# Altium integrated library Linear Technology Power Management PMIC Multifunction.IntLib: 360 symbols (part 21 of 42)
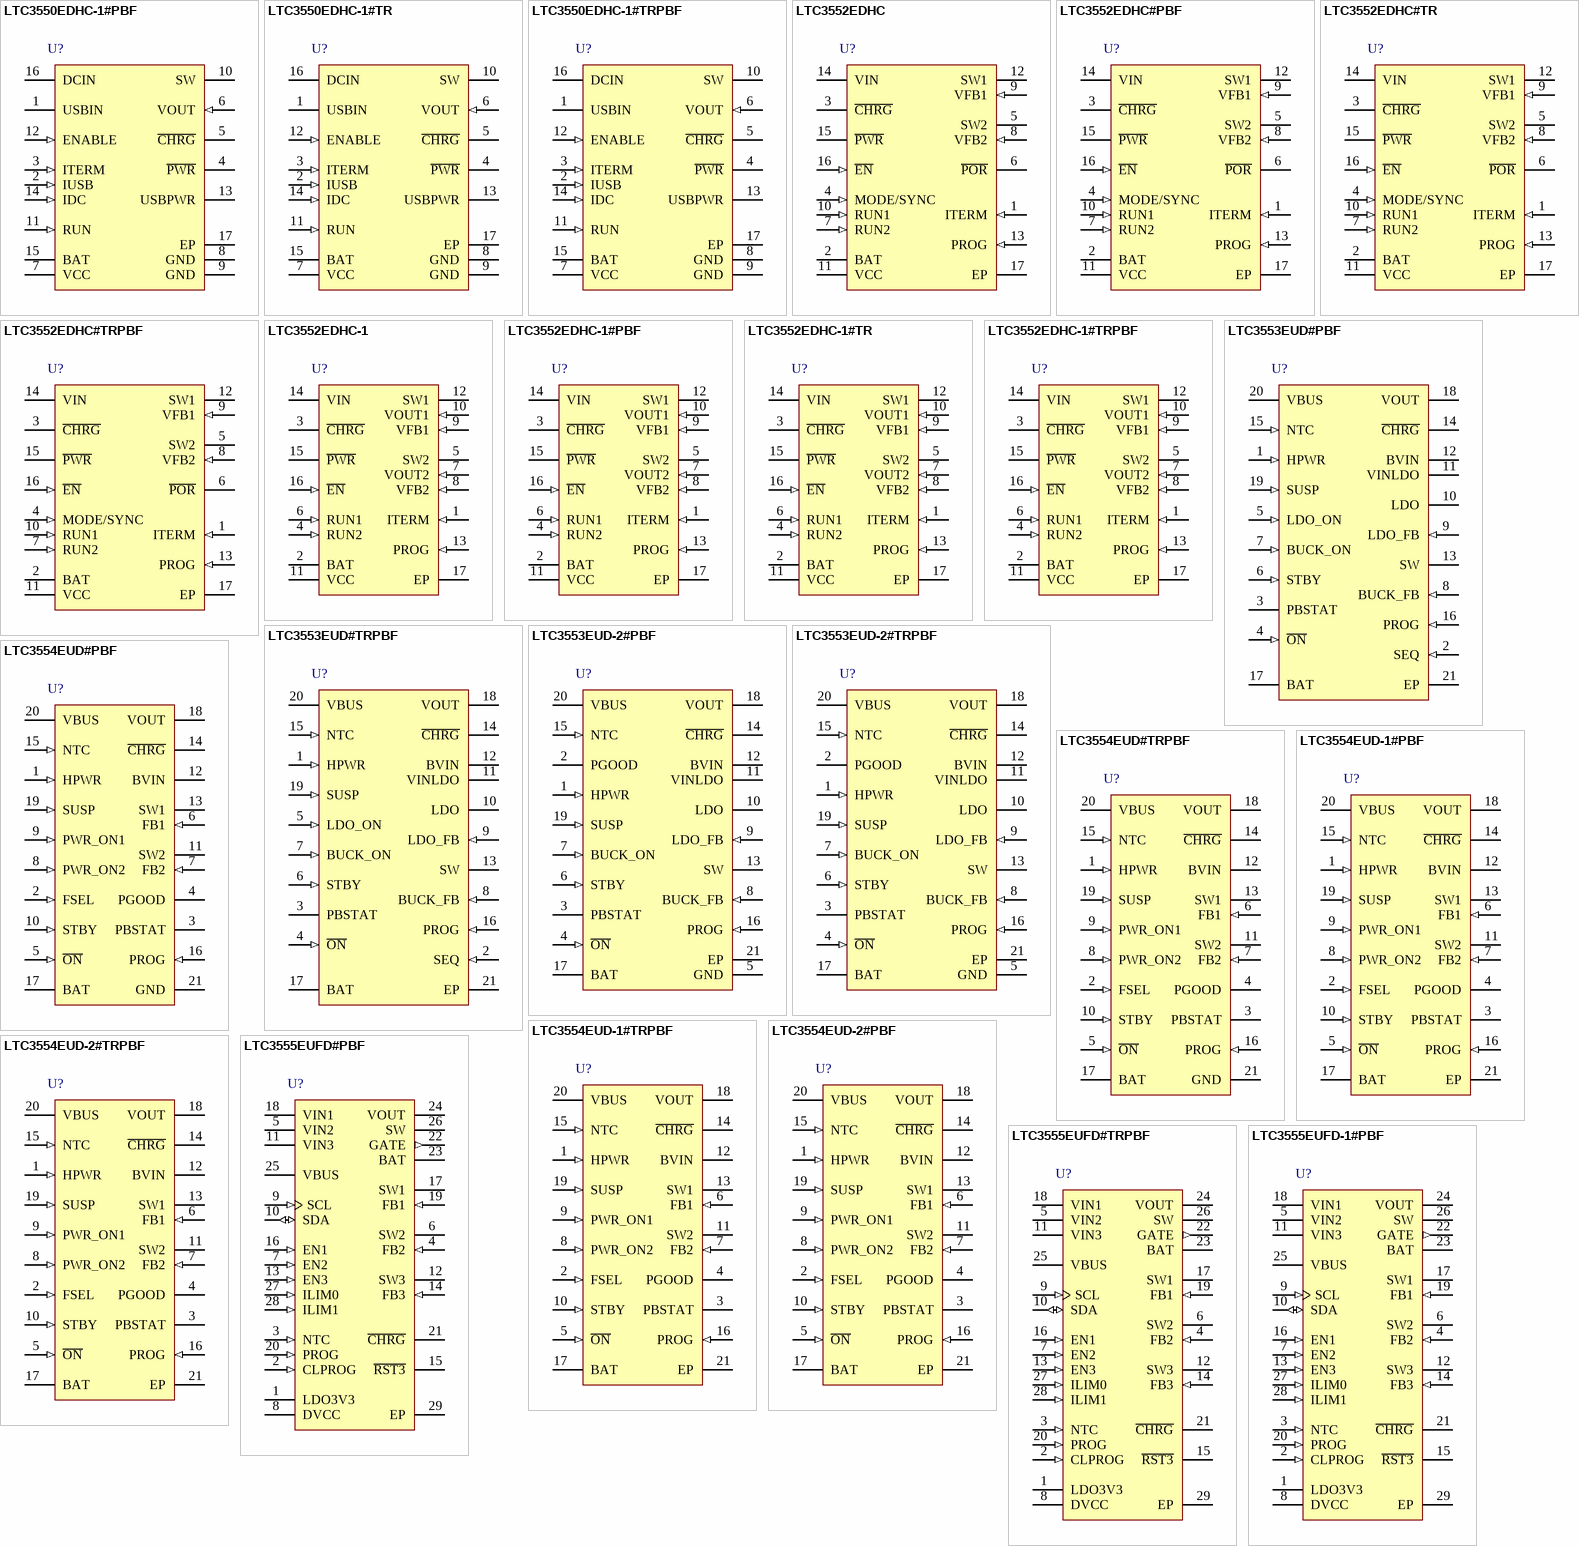
[diagram p38: symbols LTC3550EDHC-1#PBF to LTC3555EUFD-1#PBF]

## LTC3555EUFD#TRPBF
designator U?
High Efficiency USB Power Manager + Triple Step-Down DC/DC, 4.35 to 5.5 V Vin, 28-pin QFN (UFD-28), -40 to 85 degC, Pb-Free, Tape and Reel; Manufacturer: Linear Technology; PartNumber: LTC3555EUFD#TRPBF; Number of Cells: 1; Number of Outputs: 4; Vin Max(V): 5.5; Vin Min(V): 4.35; DatasheetVersion: Rev. D; PackageVersion: Rev. B, 06/2010; PackageReference: UFD-28; PackageDescription: 28-Pin Plastic QFN, Body 5 x 4 mm, Pitch 0.5 mm; Supplier 1: Digi-Key; Supplier Part Number 1: LTC3555EUFD#TRPBF-ND; Packing: Tape and Reel; RoHS: TRUE; Mounting Technology: Surface Mount; Code_JEDEC: MO-220; ComponentLink1Description: Manufacturer URL; ComponentLink1URL: http://www.linear.com/; ComponentLink2Description: Datasheet; ComponentLink2URL: http://cds.linear.com/docs/en/datasheet/3555fd.pdf; ComponentLink3Description: Package Specification; ComponentLink3URL: http://cds.linear.com/docs/en/packaging/QFN_28_05-08-1712.pdf
footprint LT-UFD-28_N (QFN, 28-Leads, Body 5.1x4.1mm, Pitch 0.5mm, Thermal Pad 3.65x2.65mm, IPC Medium Density)
footprint LT-UFD-28_L (QFN, 28-Leads, Body 5.1x4.1mm, Pitch 0.5mm, Thermal Pad 3.65x2.65mm, IPC High Density)
footprint LT-UFD-28_M (QFN, 28-Leads, Body 5.1x4.1mm, Pitch 0.5mm, Thermal Pad 3.65x2.65mm, IPC Low Density)
pins: 1 LDO3V3 (power) "3.3V LDO Output Pin. This pin provides a regulated always-on 3.3V supply voltage. LDO3V3 gets its power from VOUT. It may be used for light loads such as a watchdog microprocessor or real time clock. A 1uF capacitor is (See Datasheet)", 2 CLPROG (in) "USB Current Limit Program and Monitor Pin. A resistor from CLPROG to ground determines the upper limit of the current drawn from the VBUS pin. A fraction of the VBUS current is sent to the CLPROG pin when the synchronous (See Datasheet)", 3 NTC (in) "Input to the Thermistor Monitoring Circuits. The NTC pin connects to a battery’s thermistor to determine if the battery is too hot or too cold to charge. If the battery’s temperature is out of range, charging is pau(See Datasheet)", 4 FB2 (in) "Feedback Input for Switching Regulator 2. When regulator 2’s control loop is complete, this pin servos to 1 of 16 possible set-points based on the commanded value from the I2C serial port. See Table 4.", 5 VIN2 (power) "Power Input for Switching Regulator 2. This pin will generally be connected to VOUT. A 1uF MLCC capacitor is recommended on this pin.", 6 SW2 (power) "Power Transmission Pin for Switching Regulator 2.", 7 EN2 (in) "Logic Input. This logic input pin independently enables switching regulator 2. This pin is logically OR-ed with its corresponding bit in the I2C serial port. See Table 2.", 8 DVCC (power) "Logic Supply for the I2C Serial Port. If the serial port is not needed it can be disabled by grounding DVCC. When DVCC is grounded, chip control is automatically passed to the individual logic input pins.", 9 SCL (in) "Clock Input Pin for the I2C Serial Port. The I2C logic levels are scaled with respect to DVCC. If DVCC is grounded, the SCL pin is equivalent to the B5 bit in the I2C serial port. SCL in conjunction with SDA determine the (See Datasheet)", 10 SDA (io) "Data Input Pin for the I2C Serial Port. The I2C logic levels are scaled with respect to DVCC. If DVCC is grounded, the SDA pin is equivalent to the B6 bit in the I2C serial port. SDA in conjunction with SCL determine the (See Datasheet)", 11 VIN3 (power) "Power Input for Switching Regulator 3. This pin will generally be connected to VOUT. A 1uF MLCC capacitor is recommended on this pin.", 12 SW3 (power) "Power Transmission Pin for Switching Regulator 3.", 13 EN3 (in) "Logic Input. This logic input pin independently enables switching regulator 3. This pin is logically OR-ed with its corresponding bit in the I2C serial port. See Table 2.", 14 FB3 (in) "Feedback Input for Switching Regulator 3. When regulator 3’s control loop is complete, this pin servos to 1 of 16 possible set-points based on the commanded value from the I2C serial port. See Table 4.", 15 ~{RST3} (oc) "Logic Output. This in an open-drain output which indicates that switching regulator 3 has settled to its final value. It can be used as a power-on reset for the primary microprocessor or to enable the other switching (See Datasheet)", 16 EN1 (in) "Logic Input. This logic input pin independently enables switching regulator 1. This pin is logically OR-ed with its corresponding bit in the I2C serial port. See Table 2.", 17 SW1 (power) "Power Transmission Pin for Switching Regulator 1.", 18 VIN1 (power) "Power Input for Switching Regulator 1. This pin will generally be connected to VOUT. A 1uF MLCC capacitor is recommended on this pin.", 19 FB1 (in) "Feedback Input for Switching Regulator 1. When regulator 1’s control loop is complete, this pin servos to a fixed voltage of 0.8V.", 20 PROG (in) "Charge Current Program and Charge Current Monitor Pin. Connecting a resistor from PROG to ground programs the charge current. If sufficient input power is available in constant-current mode, this pin servos to 1V. The (See Datasheet)", 21 ~{CHRG} (hiz) "Open-Drain Charge Status Output. The C\H\R\G\ pin indicates the status of the battery charger. Four possible states are represented by C\H\R\G\: charging, not charging, unresponsive battery and battery temperature out of (See Datasheet)", 22 GATE (out) "Analog Output. This pin controls the gate of an optional external P-channel MOSFET transistor used to supplement the ideal diode between VOUT and BAT. The external ideal diode operates in parallel with the internal ideal (See Datasheet)", 23 BAT (power) "Single Cell Li-Ion Battery Pin. Depending on available VBUS power, a Li-Ion battery on BAT will either deliver power to VOUT through the ideal diode or be charged from VOUT via the battery charger.", 24 VOUT (power) ""Output voltage of the Switching PowerPath Controller and Input Voltage of the Battery Charger. The majority of the portable product should be powered from VOUT. The LTC3555 family will partition the available power between (See Datasheet)", 25 VBUS (power) "Primary Input Power Pin. This pin delivers power to VOUT via the SW pin by drawing controlled current from a DC source such as a USB port or wall adapter.", 26 SW "Power Transmission Pin for the USB Power Path. The SW pin delivers power from VBUS to VOUT via the step-down switching regulator. A 3.3uH inductor should be connected from SW to VOUT.", 27 ILIM0 (in) "Logic Input. ILIM0 and ILIM1 control the current limit of the PowerPath switching regulator. See Table 3. Both of the ILIM0 and ILIM1 pins are logically OR-ed with their corresponding bits in the I2C serial port. See Table 2.", 28 ILIM1 (in) "Logic Input. ILIM0 and ILIM1 control the current limit of the PowerPath switching regulator. See Table 3. Both of the ILIM0 and ILIM1 pins are logically OR-ed with their corresponding bits in the I2C serial port. See Table 2.", 29 EP (power) "Ground. The Exposed Pad should be connected to a continuous ground plane on the second layer of the printed circuit board by several vias directly under the part."

## LTC3555EUFD-1#PBF
designator U?
High Efficiency USB Power Manager + Triple Step-Down DC/DC, 4.35 to 5.5 V Vin, 28-pin QFN (UFD-28), -40 to 85 degC, Pb-Free; Manufacturer: Linear Technology; PartNumber: LTC3555EUFD-1#PBF; Number of Cells: 1; Number of Outputs: 4; Vin Max(V): 5.5; Vin Min(V): 4.35; DatasheetVersion: Rev. D; PackageVersion: Rev. B, 06/2010; PackageReference: UFD-28; PackageDescription: 28-Pin Plastic QFN, Body 5 x 4 mm, Pitch 0.5 mm; Supplier 1: Digi-Key; Supplier Part Number 1: LTC3555EUFD-1#PBF-ND; Supplier 2: Farnell; Supplier Part Number 2: 2295475; RoHS: TRUE; Mounting Technology: Surface Mount; Code_JEDEC: MO-220; ComponentLink1Description: Manufacturer URL; ComponentLink1URL: http://www.linear.com/; ComponentLink2Description: Datasheet; ComponentLink2URL: http://cds.linear.com/docs/en/datasheet/3555fd.pdf; ComponentLink3Description: Package Specification; ComponentLink3URL: http://cds.linear.com/docs/en/packaging/QFN_28_05-08-1712.pdf
footprint LT-UFD-28_N (QFN, 28-Leads, Body 5.1x4.1mm, Pitch 0.5mm, Thermal Pad 3.65x2.65mm, IPC Medium Density)
footprint LT-UFD-28_L (QFN, 28-Leads, Body 5.1x4.1mm, Pitch 0.5mm, Thermal Pad 3.65x2.65mm, IPC High Density)
footprint LT-UFD-28_M (QFN, 28-Leads, Body 5.1x4.1mm, Pitch 0.5mm, Thermal Pad 3.65x2.65mm, IPC Low Density)
pins: 1 LDO3V3 (power) "3.3V LDO Output Pin. This pin provides a regulated always-on 3.3V supply voltage. LDO3V3 gets its power from VOUT. It may be used for light loads such as a watchdog microprocessor or real time clock. A 1uF capacitor is (See Datasheet)", 2 CLPROG (in) "USB Current Limit Program and Monitor Pin. A resistor from CLPROG to ground determines the upper limit of the current drawn from the VBUS pin. A fraction of the VBUS current is sent to the CLPROG pin when the synchronous (See Datasheet)", 3 NTC (in) "Input to the Thermistor Monitoring Circuits. The NTC pin connects to a battery’s thermistor to determine if the battery is too hot or too cold to charge. If the battery’s temperature is out of range, charging is pau(See Datasheet)", 4 FB2 (in) "Feedback Input for Switching Regulator 2. When regulator 2’s control loop is complete, this pin servos to 1 of 16 possible set-points based on the commanded value from the I2C serial port. See Table 4.", 5 VIN2 (power) "Power Input for Switching Regulator 2. This pin will generally be connected to VOUT. A 1uF MLCC capacitor is recommended on this pin.", 6 SW2 (power) "Power Transmission Pin for Switching Regulator 2.", 7 EN2 (in) "Logic Input. This logic input pin independently enables switching regulator 2. This pin is logically OR-ed with its corresponding bit in the I2C serial port. See Table 2.", 8 DVCC (power) "Logic Supply for the I2C Serial Port. If the serial port is not needed it can be disabled by grounding DVCC. When DVCC is grounded, chip control is automatically passed to the individual logic input pins.", 9 SCL (in) "Clock Input Pin for the I2C Serial Port. The I2C logic levels are scaled with respect to DVCC. If DVCC is grounded, the SCL pin is equivalent to the B5 bit in the I2C serial port. SCL in conjunction with SDA determine the (See Datasheet)", 10 SDA (io) "Data Input Pin for the I2C Serial Port. The I2C logic levels are scaled with respect to DVCC. If DVCC is grounded, the SDA pin is equivalent to the B6 bit in the I2C serial port. SDA in conjunction with SCL determine the (See Datasheet)", 11 VIN3 (power) "Power Input for Switching Regulator 3. This pin will generally be connected to VOUT. A 1uF MLCC capacitor is recommended on this pin.", 12 SW3 (power) "Power Transmission Pin for Switching Regulator 3.", 13 EN3 (in) "Logic Input. This logic input pin independently enables switching regulator 3. This pin is logically OR-ed with its corresponding bit in the I2C serial port. See Table 2.", 14 FB3 (in) "Feedback Input for Switching Regulator 3. When regulator 3’s control loop is complete, this pin servos to 1 of 16 possible set-points based on the commanded value from the I2C serial port. See Table 4.", 15 ~{RST3} (oc) "Logic Output. This in an open-drain output which indicates that switching regulator 3 has settled to its final value. It can be used as a power-on reset for the primary microprocessor or to enable the other switching (See Datasheet)", 16 EN1 (in) "Logic Input. This logic input pin independently enables switching regulator 1. This pin is logically OR-ed with its corresponding bit in the I2C serial port. See Table 2.", 17 SW1 (power) "Power Transmission Pin for Switching Regulator 1.", 18 VIN1 (power) "Power Input for Switching Regulator 1. This pin will generally be connected to VOUT. A 1uF MLCC capacitor is recommended on this pin.", 19 FB1 (in) "Feedback Input for Switching Regulator 1. When regulator 1’s control loop is complete, this pin servos to a fixed voltage of 0.8V.", 20 PROG (in) "Charge Current Program and Charge Current Monitor Pin. Connecting a resistor from PROG to ground programs the charge current. If sufficient input power is available in constant-current mode, this pin servos to 1V. The (See Datasheet)", 21 ~{CHRG} (hiz) "Open-Drain Charge Status Output. The C\H\R\G\ pin indicates the status of the battery charger. Four possible states are represented by C\H\R\G\: charging, not charging, unresponsive battery and battery temperature out of (See Datasheet)", 22 GATE (out) "Analog Output. This pin controls the gate of an optional external P-channel MOSFET transistor used to supplement the ideal diode between VOUT and BAT. The external ideal diode operates in parallel with the internal ideal (See Datasheet)", 23 BAT (power) "Single Cell Li-Ion Battery Pin. Depending on available VBUS power, a Li-Ion battery on BAT will either deliver power to VOUT through the ideal diode or be charged from VOUT via the battery charger.", 24 VOUT (power) ""Output voltage of the Switching PowerPath Controller and Input Voltage of the Battery Charger. The majority of the portable product should be powered from VOUT. The LTC3555 family will partition the available power between (See Datasheet)", 25 VBUS (power) "Primary Input Power Pin. This pin delivers power to VOUT via the SW pin by drawing controlled current from a DC source such as a USB port or wall adapter.", 26 SW "Power Transmission Pin for the USB Power Path. The SW pin delivers power from VBUS to VOUT via the step-down switching regulator. A 3.3uH inductor should be connected from SW to VOUT.", 27 ILIM0 (in) "Logic Input. ILIM0 and ILIM1 control the current limit of the PowerPath switching regulator. See Table 3. Both of the ILIM0 and ILIM1 pins are logically OR-ed with their corresponding bits in the I2C serial port. See Table 2.", 28 ILIM1 (in) "Logic Input. ILIM0 and ILIM1 control the current limit of the PowerPath switching regulator. See Table 3. Both of the ILIM0 and ILIM1 pins are logically OR-ed with their corresponding bits in the I2C serial port. See Table 2.", 29 EP (power) "Ground. The Exposed Pad should be connected to a continuous ground plane on the second layer of the printed circuit board by several vias directly under the part."

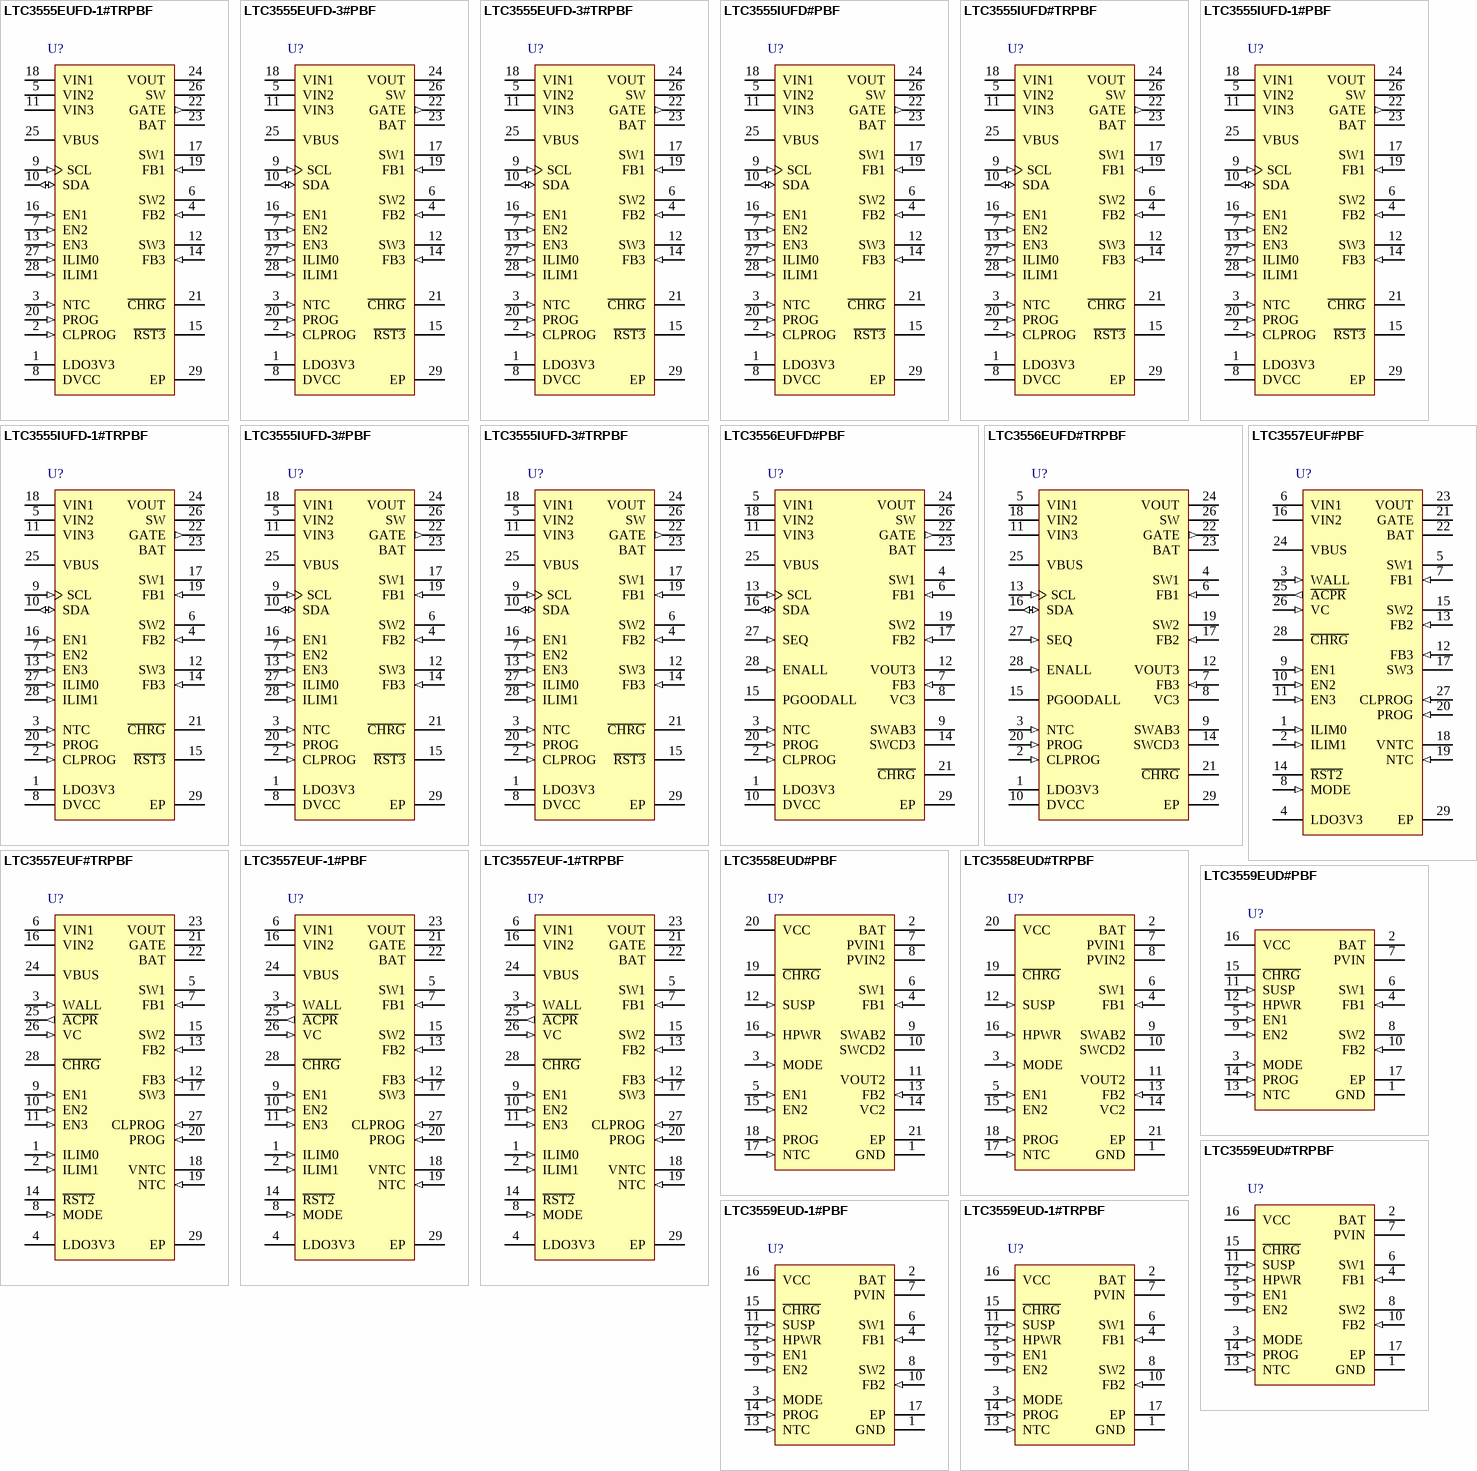
[diagram p9: symbols LTC3555EUFD-1#TRPBF to LTC3559EUD-1#TRPBF]

## LTC3555EUFD-1#TRPBF
designator U?
High Efficiency USB Power Manager + Triple Step-Down DC/DC, 4.35 to 5.5 V Vin, 28-pin QFN (UFD-28), -40 to 85 degC, Pb-Free, Tape and Reel; Manufacturer: Linear Technology; PartNumber: LTC3555EUFD-1#TRPBF; Number of Cells: 1; Number of Outputs: 4; Vin Max(V): 5.5; Vin Min(V): 4.35; DatasheetVersion: Rev. D; PackageVersion: Rev. B, 06/2010; PackageReference: UFD-28; PackageDescription: 28-Pin Plastic QFN, Body 5 x 4 mm, Pitch 0.5 mm; Supplier 1: Digi-Key; Supplier Part Number 1: LTC3555EUFD-1#TRPBF-ND; Packing: Tape and Reel; RoHS: TRUE; Mounting Technology: Surface Mount; Code_JEDEC: MO-220; ComponentLink1Description: Manufacturer URL; ComponentLink1URL: http://www.linear.com/; ComponentLink2Description: Datasheet; ComponentLink2URL: http://cds.linear.com/docs/en/datasheet/3555fd.pdf; ComponentLink3Description: Package Specification; ComponentLink3URL: http://cds.linear.com/docs/en/packaging/QFN_28_05-08-1712.pdf
footprint LT-UFD-28_N (QFN, 28-Leads, Body 5.1x4.1mm, Pitch 0.5mm, Thermal Pad 3.65x2.65mm, IPC Medium Density)
footprint LT-UFD-28_L (QFN, 28-Leads, Body 5.1x4.1mm, Pitch 0.5mm, Thermal Pad 3.65x2.65mm, IPC High Density)
footprint LT-UFD-28_M (QFN, 28-Leads, Body 5.1x4.1mm, Pitch 0.5mm, Thermal Pad 3.65x2.65mm, IPC Low Density)
pins: 1 LDO3V3 (power) "3.3V LDO Output Pin. This pin provides a regulated always-on 3.3V supply voltage. LDO3V3 gets its power from VOUT. It may be used for light loads such as a watchdog microprocessor or real time clock. A 1uF capacitor is (See Datasheet)", 2 CLPROG (in) "USB Current Limit Program and Monitor Pin. A resistor from CLPROG to ground determines the upper limit of the current drawn from the VBUS pin. A fraction of the VBUS current is sent to the CLPROG pin when the synchronous (See Datasheet)", 3 NTC (in) "Input to the Thermistor Monitoring Circuits. The NTC pin connects to a battery’s thermistor to determine if the battery is too hot or too cold to charge. If the battery’s temperature is out of range, charging is pau(See Datasheet)", 4 FB2 (in) "Feedback Input for Switching Regulator 2. When regulator 2’s control loop is complete, this pin servos to 1 of 16 possible set-points based on the commanded value from the I2C serial port. See Table 4.", 5 VIN2 (power) "Power Input for Switching Regulator 2. This pin will generally be connected to VOUT. A 1uF MLCC capacitor is recommended on this pin.", 6 SW2 (power) "Power Transmission Pin for Switching Regulator 2.", 7 EN2 (in) "Logic Input. This logic input pin independently enables switching regulator 2. This pin is logically OR-ed with its corresponding bit in the I2C serial port. See Table 2.", 8 DVCC (power) "Logic Supply for the I2C Serial Port. If the serial port is not needed it can be disabled by grounding DVCC. When DVCC is grounded, chip control is automatically passed to the individual logic input pins.", 9 SCL (in) "Clock Input Pin for the I2C Serial Port. The I2C logic levels are scaled with respect to DVCC. If DVCC is grounded, the SCL pin is equivalent to the B5 bit in the I2C serial port. SCL in conjunction with SDA determine the (See Datasheet)", 10 SDA (io) "Data Input Pin for the I2C Serial Port. The I2C logic levels are scaled with respect to DVCC. If DVCC is grounded, the SDA pin is equivalent to the B6 bit in the I2C serial port. SDA in conjunction with SCL determine the (See Datasheet)", 11 VIN3 (power) "Power Input for Switching Regulator 3. This pin will generally be connected to VOUT. A 1uF MLCC capacitor is recommended on this pin.", 12 SW3 (power) "Power Transmission Pin for Switching Regulator 3.", 13 EN3 (in) "Logic Input. This logic input pin independently enables switching regulator 3. This pin is logically OR-ed with its corresponding bit in the I2C serial port. See Table 2.", 14 FB3 (in) "Feedback Input for Switching Regulator 3. When regulator 3’s control loop is complete, this pin servos to 1 of 16 possible set-points based on the commanded value from the I2C serial port. See Table 4.", 15 ~{RST3} (oc) "Logic Output. This in an open-drain output which indicates that switching regulator 3 has settled to its final value. It can be used as a power-on reset for the primary microprocessor or to enable the other switching (See Datasheet)", 16 EN1 (in) "Logic Input. This logic input pin independently enables switching regulator 1. This pin is logically OR-ed with its corresponding bit in the I2C serial port. See Table 2.", 17 SW1 (power) "Power Transmission Pin for Switching Regulator 1.", 18 VIN1 (power) "Power Input for Switching Regulator 1. This pin will generally be connected to VOUT. A 1uF MLCC capacitor is recommended on this pin.", 19 FB1 (in) "Feedback Input for Switching Regulator 1. When regulator 1’s control loop is complete, this pin servos to a fixed voltage of 0.8V.", 20 PROG (in) "Charge Current Program and Charge Current Monitor Pin. Connecting a resistor from PROG to ground programs the charge current. If sufficient input power is available in constant-current mode, this pin servos to 1V. The (See Datasheet)", 21 ~{CHRG} (hiz) "Open-Drain Charge Status Output. The C\H\R\G\ pin indicates the status of the battery charger. Four possible states are represented by C\H\R\G\: charging, not charging, unresponsive battery and battery temperature out of (See Datasheet)", 22 GATE (out) "Analog Output. This pin controls the gate of an optional external P-channel MOSFET transistor used to supplement the ideal diode between VOUT and BAT. The external ideal diode operates in parallel with the internal ideal (See Datasheet)", 23 BAT (power) "Single Cell Li-Ion Battery Pin. Depending on available VBUS power, a Li-Ion battery on BAT will either deliver power to VOUT through the ideal diode or be charged from VOUT via the battery charger.", 24 VOUT (power) ""Output voltage of the Switching PowerPath Controller and Input Voltage of the Battery Charger. The majority of the portable product should be powered from VOUT. The LTC3555 family will partition the available power between (See Datasheet)", 25 VBUS (power) "Primary Input Power Pin. This pin delivers power to VOUT via the SW pin by drawing controlled current from a DC source such as a USB port or wall adapter.", 26 SW "Power Transmission Pin for the USB Power Path. The SW pin delivers power from VBUS to VOUT via the step-down switching regulator. A 3.3uH inductor should be connected from SW to VOUT.", 27 ILIM0 (in) "Logic Input. ILIM0 and ILIM1 control the current limit of the PowerPath switching regulator. See Table 3. Both of the ILIM0 and ILIM1 pins are logically OR-ed with their corresponding bits in the I2C serial port. See Table 2.", 28 ILIM1 (in) "Logic Input. ILIM0 and ILIM1 control the current limit of the PowerPath switching regulator. See Table 3. Both of the ILIM0 and ILIM1 pins are logically OR-ed with their corresponding bits in the I2C serial port. See Table 2.", 29 EP (power) "Ground. The Exposed Pad should be connected to a continuous ground plane on the second layer of the printed circuit board by several vias directly under the part."

## LTC3555EUFD-3#PBF
designator U?
High Efficiency USB Power Manager + Triple Step-Down DC/DC, 4.35 to 5.5 V Vin, 28-pin QFN (UFD-28), -40 to 85 degC, Pb-Free; Manufacturer: Linear Technology; PartNumber: LTC3555EUFD-3#PBF; Number of Cells: 1; Number of Outputs: 4; Vin Max(V): 5.5; Vin Min(V): 4.35; DatasheetVersion: Rev. D; PackageVersion: Rev. B, 06/2010; PackageReference: UFD-28; PackageDescription: 28-Pin Plastic QFN, Body 5 x 4 mm, Pitch 0.5 mm; Supplier 1: Digi-Key; Supplier Part Number 1: LTC3555EUFD-3#PBF-ND; Supplier 2: Newark; Supplier Part Number 2: 95M6502; RoHS: TRUE; Mounting Technology: Surface Mount; Code_JEDEC: MO-220; ComponentLink1Description: Manufacturer URL; ComponentLink1URL: http://www.linear.com/; ComponentLink2Description: Datasheet; ComponentLink2URL: http://cds.linear.com/docs/en/datasheet/3555fd.pdf; ComponentLink3Description: Package Specification; ComponentLink3URL: http://cds.linear.com/docs/en/packaging/QFN_28_05-08-1712.pdf
footprint LT-UFD-28_N (QFN, 28-Leads, Body 5.1x4.1mm, Pitch 0.5mm, Thermal Pad 3.65x2.65mm, IPC Medium Density)
footprint LT-UFD-28_L (QFN, 28-Leads, Body 5.1x4.1mm, Pitch 0.5mm, Thermal Pad 3.65x2.65mm, IPC High Density)
footprint LT-UFD-28_M (QFN, 28-Leads, Body 5.1x4.1mm, Pitch 0.5mm, Thermal Pad 3.65x2.65mm, IPC Low Density)
pins: 1 LDO3V3 (power) "3.3V LDO Output Pin. This pin provides a regulated always-on 3.3V supply voltage. LDO3V3 gets its power from VOUT. It may be used for light loads such as a watchdog microprocessor or real time clock. A 1uF capacitor is (See Datasheet)", 2 CLPROG (in) "USB Current Limit Program and Monitor Pin. A resistor from CLPROG to ground determines the upper limit of the current drawn from the VBUS pin. A fraction of the VBUS current is sent to the CLPROG pin when the synchronous (See Datasheet)", 3 NTC (in) "Input to the Thermistor Monitoring Circuits. The NTC pin connects to a battery’s thermistor to determine if the battery is too hot or too cold to charge. If the battery’s temperature is out of range, charging is pau(See Datasheet)", 4 FB2 (in) "Feedback Input for Switching Regulator 2. When regulator 2’s control loop is complete, this pin servos to 1 of 16 possible set-points based on the commanded value from the I2C serial port. See Table 4.", 5 VIN2 (power) "Power Input for Switching Regulator 2. This pin will generally be connected to VOUT. A 1uF MLCC capacitor is recommended on this pin.", 6 SW2 (power) "Power Transmission Pin for Switching Regulator 2.", 7 EN2 (in) "Logic Input. This logic input pin independently enables switching regulator 2. This pin is logically OR-ed with its corresponding bit in the I2C serial port. See Table 2.", 8 DVCC (power) "Logic Supply for the I2C Serial Port. If the serial port is not needed it can be disabled by grounding DVCC. When DVCC is grounded, chip control is automatically passed to the individual logic input pins.", 9 SCL (in) "Clock Input Pin for the I2C Serial Port. The I2C logic levels are scaled with respect to DVCC. If DVCC is grounded, the SCL pin is equivalent to the B5 bit in the I2C serial port. SCL in conjunction with SDA determine the (See Datasheet)", 10 SDA (io) "Data Input Pin for the I2C Serial Port. The I2C logic levels are scaled with respect to DVCC. If DVCC is grounded, the SDA pin is equivalent to the B6 bit in the I2C serial port. SDA in conjunction with SCL determine the (See Datasheet)", 11 VIN3 (power) "Power Input for Switching Regulator 3. This pin will generally be connected to VOUT. A 1uF MLCC capacitor is recommended on this pin.", 12 SW3 (power) "Power Transmission Pin for Switching Regulator 3.", 13 EN3 (in) "Logic Input. This logic input pin independently enables switching regulator 3. This pin is logically OR-ed with its corresponding bit in the I2C serial port. See Table 2.", 14 FB3 (in) "Feedback Input for Switching Regulator 3. When regulator 3’s control loop is complete, this pin servos to 1 of 16 possible set-points based on the commanded value from the I2C serial port. See Table 4.", 15 ~{RST3} (oc) "Logic Output. This in an open-drain output which indicates that switching regulator 3 has settled to its final value. It can be used as a power-on reset for the primary microprocessor or to enable the other switching (See Datasheet)", 16 EN1 (in) "Logic Input. This logic input pin independently enables switching regulator 1. This pin is logically OR-ed with its corresponding bit in the I2C serial port. See Table 2.", 17 SW1 (power) "Power Transmission Pin for Switching Regulator 1.", 18 VIN1 (power) "Power Input for Switching Regulator 1. This pin will generally be connected to VOUT. A 1uF MLCC capacitor is recommended on this pin.", 19 FB1 (in) "Feedback Input for Switching Regulator 1. When regulator 1’s control loop is complete, this pin servos to a fixed voltage of 0.8V.", 20 PROG (in) "Charge Current Program and Charge Current Monitor Pin. Connecting a resistor from PROG to ground programs the charge current. If sufficient input power is available in constant-current mode, this pin servos to 1V. The (See Datasheet)", 21 ~{CHRG} (hiz) "Open-Drain Charge Status Output. The C\H\R\G\ pin indicates the status of the battery charger. Four possible states are represented by C\H\R\G\: charging, not charging, unresponsive battery and battery temperature out of (See Datasheet)", 22 GATE (out) "Analog Output. This pin controls the gate of an optional external P-channel MOSFET transistor used to supplement the ideal diode between VOUT and BAT. The external ideal diode operates in parallel with the internal ideal (See Datasheet)", 23 BAT (power) "Single Cell Li-Ion Battery Pin. Depending on available VBUS power, a Li-Ion battery on BAT will either deliver power to VOUT through the ideal diode or be charged from VOUT via the battery charger.", 24 VOUT (power) ""Output voltage of the Switching PowerPath Controller and Input Voltage of the Battery Charger. The majority of the portable product should be powered from VOUT. The LTC3555 family will partition the available power between (See Datasheet)", 25 VBUS (power) "Primary Input Power Pin. This pin delivers power to VOUT via the SW pin by drawing controlled current from a DC source such as a USB port or wall adapter.", 26 SW "Power Transmission Pin for the USB Power Path. The SW pin delivers power from VBUS to VOUT via the step-down switching regulator. A 3.3uH inductor should be connected from SW to VOUT.", 27 ILIM0 (in) "Logic Input. ILIM0 and ILIM1 control the current limit of the PowerPath switching regulator. See Table 3. Both of the ILIM0 and ILIM1 pins are logically OR-ed with their corresponding bits in the I2C serial port. See Table 2.", 28 ILIM1 (in) "Logic Input. ILIM0 and ILIM1 control the current limit of the PowerPath switching regulator. See Table 3. Both of the ILIM0 and ILIM1 pins are logically OR-ed with their corresponding bits in the I2C serial port. See Table 2.", 29 EP (power) "Ground. The Exposed Pad should be connected to a continuous ground plane on the second layer of the printed circuit board by several vias directly under the part."

## LTC3555EUFD-3#TRPBF
designator U?
High Efficiency USB Power Manager + Triple Step-Down DC/DC, 4.35 to 5.5 V Vin, 28-pin QFN (UFD-28), -40 to 85 degC, Pb-Free, Tape and Reel; Manufacturer: Linear Technology; PartNumber: LTC3555EUFD-3#TRPBF; Number of Cells: 1; Number of Outputs: 4; Vin Max(V): 5.5; Vin Min(V): 4.35; DatasheetVersion: Rev. D; PackageVersion: Rev. B, 06/2010; PackageReference: UFD-28; PackageDescription: 28-Pin Plastic QFN, Body 5 x 4 mm, Pitch 0.5 mm; Supplier 1: Digi-Key; Supplier Part Number 1: LTC3555EUFD-3#TRPBF-ND; Packing: Tape and Reel; RoHS: TRUE; Mounting Technology: Surface Mount; Code_JEDEC: MO-220; ComponentLink1Description: Manufacturer URL; ComponentLink1URL: http://www.linear.com/; ComponentLink2Description: Datasheet; ComponentLink2URL: http://cds.linear.com/docs/en/datasheet/3555fd.pdf; ComponentLink3Description: Package Specification; ComponentLink3URL: http://cds.linear.com/docs/en/packaging/QFN_28_05-08-1712.pdf
footprint LT-UFD-28_N (QFN, 28-Leads, Body 5.1x4.1mm, Pitch 0.5mm, Thermal Pad 3.65x2.65mm, IPC Medium Density)
footprint LT-UFD-28_L (QFN, 28-Leads, Body 5.1x4.1mm, Pitch 0.5mm, Thermal Pad 3.65x2.65mm, IPC High Density)
footprint LT-UFD-28_M (QFN, 28-Leads, Body 5.1x4.1mm, Pitch 0.5mm, Thermal Pad 3.65x2.65mm, IPC Low Density)
pins: 1 LDO3V3 (power) "3.3V LDO Output Pin. This pin provides a regulated always-on 3.3V supply voltage. LDO3V3 gets its power from VOUT. It may be used for light loads such as a watchdog microprocessor or real time clock. A 1uF capacitor is (See Datasheet)", 2 CLPROG (in) "USB Current Limit Program and Monitor Pin. A resistor from CLPROG to ground determines the upper limit of the current drawn from the VBUS pin. A fraction of the VBUS current is sent to the CLPROG pin when the synchronous (See Datasheet)", 3 NTC (in) "Input to the Thermistor Monitoring Circuits. The NTC pin connects to a battery’s thermistor to determine if the battery is too hot or too cold to charge. If the battery’s temperature is out of range, charging is pau(See Datasheet)", 4 FB2 (in) "Feedback Input for Switching Regulator 2. When regulator 2’s control loop is complete, this pin servos to 1 of 16 possible set-points based on the commanded value from the I2C serial port. See Table 4.", 5 VIN2 (power) "Power Input for Switching Regulator 2. This pin will generally be connected to VOUT. A 1uF MLCC capacitor is recommended on this pin.", 6 SW2 (power) "Power Transmission Pin for Switching Regulator 2.", 7 EN2 (in) "Logic Input. This logic input pin independently enables switching regulator 2. This pin is logically OR-ed with its corresponding bit in the I2C serial port. See Table 2.", 8 DVCC (power) "Logic Supply for the I2C Serial Port. If the serial port is not needed it can be disabled by grounding DVCC. When DVCC is grounded, chip control is automatically passed to the individual logic input pins.", 9 SCL (in) "Clock Input Pin for the I2C Serial Port. The I2C logic levels are scaled with respect to DVCC. If DVCC is grounded, the SCL pin is equivalent to the B5 bit in the I2C serial port. SCL in conjunction with SDA determine the (See Datasheet)", 10 SDA (io) "Data Input Pin for the I2C Serial Port. The I2C logic levels are scaled with respect to DVCC. If DVCC is grounded, the SDA pin is equivalent to the B6 bit in the I2C serial port. SDA in conjunction with SCL determine the (See Datasheet)", 11 VIN3 (power) "Power Input for Switching Regulator 3. This pin will generally be connected to VOUT. A 1uF MLCC capacitor is recommended on this pin.", 12 SW3 (power) "Power Transmission Pin for Switching Regulator 3.", 13 EN3 (in) "Logic Input. This logic input pin independently enables switching regulator 3. This pin is logically OR-ed with its corresponding bit in the I2C serial port. See Table 2.", 14 FB3 (in) "Feedback Input for Switching Regulator 3. When regulator 3’s control loop is complete, this pin servos to 1 of 16 possible set-points based on the commanded value from the I2C serial port. See Table 4.", 15 ~{RST3} (oc) "Logic Output. This in an open-drain output which indicates that switching regulator 3 has settled to its final value. It can be used as a power-on reset for the primary microprocessor or to enable the other switching (See Datasheet)", 16 EN1 (in) "Logic Input. This logic input pin independently enables switching regulator 1. This pin is logically OR-ed with its corresponding bit in the I2C serial port. See Table 2.", 17 SW1 (power) "Power Transmission Pin for Switching Regulator 1.", 18 VIN1 (power) "Power Input for Switching Regulator 1. This pin will generally be connected to VOUT. A 1uF MLCC capacitor is recommended on this pin.", 19 FB1 (in) "Feedback Input for Switching Regulator 1. When regulator 1’s control loop is complete, this pin servos to a fixed voltage of 0.8V.", 20 PROG (in) "Charge Current Program and Charge Current Monitor Pin. Connecting a resistor from PROG to ground programs the charge current. If sufficient input power is available in constant-current mode, this pin servos to 1V. The (See Datasheet)", 21 ~{CHRG} (hiz) "Open-Drain Charge Status Output. The C\H\R\G\ pin indicates the status of the battery charger. Four possible states are represented by C\H\R\G\: charging, not charging, unresponsive battery and battery temperature out of (See Datasheet)", 22 GATE (out) "Analog Output. This pin controls the gate of an optional external P-channel MOSFET transistor used to supplement the ideal diode between VOUT and BAT. The external ideal diode operates in parallel with the internal ideal (See Datasheet)", 23 BAT (power) "Single Cell Li-Ion Battery Pin. Depending on available VBUS power, a Li-Ion battery on BAT will either deliver power to VOUT through the ideal diode or be charged from VOUT via the battery charger.", 24 VOUT (power) ""Output voltage of the Switching PowerPath Controller and Input Voltage of the Battery Charger. The majority of the portable product should be powered from VOUT. The LTC3555 family will partition the available power between (See Datasheet)", 25 VBUS (power) "Primary Input Power Pin. This pin delivers power to VOUT via the SW pin by drawing controlled current from a DC source such as a USB port or wall adapter.", 26 SW "Power Transmission Pin for the USB Power Path. The SW pin delivers power from VBUS to VOUT via the step-down switching regulator. A 3.3uH inductor should be connected from SW to VOUT.", 27 ILIM0 (in) "Logic Input. ILIM0 and ILIM1 control the current limit of the PowerPath switching regulator. See Table 3. Both of the ILIM0 and ILIM1 pins are logically OR-ed with their corresponding bits in the I2C serial port. See Table 2.", 28 ILIM1 (in) "Logic Input. ILIM0 and ILIM1 control the current limit of the PowerPath switching regulator. See Table 3. Both of the ILIM0 and ILIM1 pins are logically OR-ed with their corresponding bits in the I2C serial port. See Table 2.", 29 EP (power) "Ground. The Exposed Pad should be connected to a continuous ground plane on the second layer of the printed circuit board by several vias directly under the part."

## LTC3555IUFD#PBF
designator U?
High Efficiency USB Power Manager + Triple Step-Down DC/DC, 4.35 to 5.5 V Vin, 28-pin QFN (UFD-28), -40 to 85 degC, Pb-Free; Manufacturer: Linear Technology; PartNumber: LTC3555IUFD#PBF; Number of Cells: 1; Number of Outputs: 4; Vin Max(V): 5.5; Vin Min(V): 4.35; DatasheetVersion: Rev. D; PackageVersion: Rev. B, 06/2010; PackageReference: UFD-28; PackageDescription: 28-Pin Plastic QFN, Body 5 x 4 mm, Pitch 0.5 mm; Supplier 1: Digi-Key; Supplier Part Number 1: LTC3555IUFD#PBF-ND; RoHS: TRUE; Mounting Technology: Surface Mount; Code_JEDEC: MO-220; ComponentLink1Description: Manufacturer URL; ComponentLink1URL: http://www.linear.com/; ComponentLink2Description: Datasheet; ComponentLink2URL: http://cds.linear.com/docs/en/datasheet/3555fd.pdf; ComponentLink3Description: Package Specification; ComponentLink3URL: http://cds.linear.com/docs/en/packaging/QFN_28_05-08-1712.pdf
footprint LT-UFD-28_N (QFN, 28-Leads, Body 5.1x4.1mm, Pitch 0.5mm, Thermal Pad 3.65x2.65mm, IPC Medium Density)
footprint LT-UFD-28_L (QFN, 28-Leads, Body 5.1x4.1mm, Pitch 0.5mm, Thermal Pad 3.65x2.65mm, IPC High Density)
footprint LT-UFD-28_M (QFN, 28-Leads, Body 5.1x4.1mm, Pitch 0.5mm, Thermal Pad 3.65x2.65mm, IPC Low Density)
pins: 1 LDO3V3 (power) "3.3V LDO Output Pin. This pin provides a regulated always-on 3.3V supply voltage. LDO3V3 gets its power from VOUT. It may be used for light loads such as a watchdog microprocessor or real time clock. A 1uF capacitor is (See Datasheet)", 2 CLPROG (in) "USB Current Limit Program and Monitor Pin. A resistor from CLPROG to ground determines the upper limit of the current drawn from the VBUS pin. A fraction of the VBUS current is sent to the CLPROG pin when the synchronous (See Datasheet)", 3 NTC (in) "Input to the Thermistor Monitoring Circuits. The NTC pin connects to a battery’s thermistor to determine if the battery is too hot or too cold to charge. If the battery’s temperature is out of range, charging is pau(See Datasheet)", 4 FB2 (in) "Feedback Input for Switching Regulator 2. When regulator 2’s control loop is complete, this pin servos to 1 of 16 possible set-points based on the commanded value from the I2C serial port. See Table 4.", 5 VIN2 (power) "Power Input for Switching Regulator 2. This pin will generally be connected to VOUT. A 1uF MLCC capacitor is recommended on this pin.", 6 SW2 (power) "Power Transmission Pin for Switching Regulator 2.", 7 EN2 (in) "Logic Input. This logic input pin independently enables switching regulator 2. This pin is logically OR-ed with its corresponding bit in the I2C serial port. See Table 2.", 8 DVCC (power) "Logic Supply for the I2C Serial Port. If the serial port is not needed it can be disabled by grounding DVCC. When DVCC is grounded, chip control is automatically passed to the individual logic input pins.", 9 SCL (in) "Clock Input Pin for the I2C Serial Port. The I2C logic levels are scaled with respect to DVCC. If DVCC is grounded, the SCL pin is equivalent to the B5 bit in the I2C serial port. SCL in conjunction with SDA determine the (See Datasheet)", 10 SDA (io) "Data Input Pin for the I2C Serial Port. The I2C logic levels are scaled with respect to DVCC. If DVCC is grounded, the SDA pin is equivalent to the B6 bit in the I2C serial port. SDA in conjunction with SCL determine the (See Datasheet)", 11 VIN3 (power) "Power Input for Switching Regulator 3. This pin will generally be connected to VOUT. A 1uF MLCC capacitor is recommended on this pin.", 12 SW3 (power) "Power Transmission Pin for Switching Regulator 3.", 13 EN3 (in) "Logic Input. This logic input pin independently enables switching regulator 3. This pin is logically OR-ed with its corresponding bit in the I2C serial port. See Table 2.", 14 FB3 (in) "Feedback Input for Switching Regulator 3. When regulator 3’s control loop is complete, this pin servos to 1 of 16 possible set-points based on the commanded value from the I2C serial port. See Table 4.", 15 ~{RST3} (oc) "Logic Output. This in an open-drain output which indicates that switching regulator 3 has settled to its final value. It can be used as a power-on reset for the primary microprocessor or to enable the other switching (See Datasheet)", 16 EN1 (in) "Logic Input. This logic input pin independently enables switching regulator 1. This pin is logically OR-ed with its corresponding bit in the I2C serial port. See Table 2.", 17 SW1 (power) "Power Transmission Pin for Switching Regulator 1.", 18 VIN1 (power) "Power Input for Switching Regulator 1. This pin will generally be connected to VOUT. A 1uF MLCC capacitor is recommended on this pin.", 19 FB1 (in) "Feedback Input for Switching Regulator 1. When regulator 1’s control loop is complete, this pin servos to a fixed voltage of 0.8V.", 20 PROG (in) "Charge Current Program and Charge Current Monitor Pin. Connecting a resistor from PROG to ground programs the charge current. If sufficient input power is available in constant-current mode, this pin servos to 1V. The (See Datasheet)", 21 ~{CHRG} (hiz) "Open-Drain Charge Status Output. The C\H\R\G\ pin indicates the status of the battery charger. Four possible states are represented by C\H\R\G\: charging, not charging, unresponsive battery and battery temperature out of (See Datasheet)", 22 GATE (out) "Analog Output. This pin controls the gate of an optional external P-channel MOSFET transistor used to supplement the ideal diode between VOUT and BAT. The external ideal diode operates in parallel with the internal ideal (See Datasheet)", 23 BAT (power) "Single Cell Li-Ion Battery Pin. Depending on available VBUS power, a Li-Ion battery on BAT will either deliver power to VOUT through the ideal diode or be charged from VOUT via the battery charger.", 24 VOUT (power) ""Output voltage of the Switching PowerPath Controller and Input Voltage of the Battery Charger. The majority of the portable product should be powered from VOUT. The LTC3555 family will partition the available power between (See Datasheet)", 25 VBUS (power) "Primary Input Power Pin. This pin delivers power to VOUT via the SW pin by drawing controlled current from a DC source such as a USB port or wall adapter.", 26 SW "Power Transmission Pin for the USB Power Path. The SW pin delivers power from VBUS to VOUT via the step-down switching regulator. A 3.3uH inductor should be connected from SW to VOUT.", 27 ILIM0 (in) "Logic Input. ILIM0 and ILIM1 control the current limit of the PowerPath switching regulator. See Table 3. Both of the ILIM0 and ILIM1 pins are logically OR-ed with their corresponding bits in the I2C serial port. See Table 2.", 28 ILIM1 (in) "Logic Input. ILIM0 and ILIM1 control the current limit of the PowerPath switching regulator. See Table 3. Both of the ILIM0 and ILIM1 pins are logically OR-ed with their corresponding bits in the I2C serial port. See Table 2.", 29 EP (power) "Ground. The Exposed Pad should be connected to a continuous ground plane on the second layer of the printed circuit board by several vias directly under the part."

## LTC3555IUFD#TRPBF
designator U?
High Efficiency USB Power Manager + Triple Step-Down DC/DC, 4.35 to 5.5 V Vin, 28-pin QFN (UFD-28), -40 to 85 degC, Pb-Free, Tape and Reel; Manufacturer: Linear Technology; PartNumber: LTC3555IUFD#TRPBF; Number of Cells: 1; Number of Outputs: 4; Vin Max(V): 5.5; Vin Min(V): 4.35; DatasheetVersion: Rev. D; PackageVersion: Rev. B, 06/2010; PackageReference: UFD-28; PackageDescription: 28-Pin Plastic QFN, Body 5 x 4 mm, Pitch 0.5 mm; Supplier 1: Digi-Key; Supplier Part Number 1: LTC3555IUFD#TRPBF-ND; Packing: Tape and Reel; RoHS: TRUE; Mounting Technology: Surface Mount; Code_JEDEC: MO-220; ComponentLink1Description: Manufacturer URL; ComponentLink1URL: http://www.linear.com/; ComponentLink2Description: Datasheet; ComponentLink2URL: http://cds.linear.com/docs/en/datasheet/3555fd.pdf; ComponentLink3Description: Package Specification; ComponentLink3URL: http://cds.linear.com/docs/en/packaging/QFN_28_05-08-1712.pdf
footprint LT-UFD-28_N (QFN, 28-Leads, Body 5.1x4.1mm, Pitch 0.5mm, Thermal Pad 3.65x2.65mm, IPC Medium Density)
footprint LT-UFD-28_L (QFN, 28-Leads, Body 5.1x4.1mm, Pitch 0.5mm, Thermal Pad 3.65x2.65mm, IPC High Density)
footprint LT-UFD-28_M (QFN, 28-Leads, Body 5.1x4.1mm, Pitch 0.5mm, Thermal Pad 3.65x2.65mm, IPC Low Density)
pins: 1 LDO3V3 (power) "3.3V LDO Output Pin. This pin provides a regulated always-on 3.3V supply voltage. LDO3V3 gets its power from VOUT. It may be used for light loads such as a watchdog microprocessor or real time clock. A 1uF capacitor is (See Datasheet)", 2 CLPROG (in) "USB Current Limit Program and Monitor Pin. A resistor from CLPROG to ground determines the upper limit of the current drawn from the VBUS pin. A fraction of the VBUS current is sent to the CLPROG pin when the synchronous (See Datasheet)", 3 NTC (in) "Input to the Thermistor Monitoring Circuits. The NTC pin connects to a battery’s thermistor to determine if the battery is too hot or too cold to charge. If the battery’s temperature is out of range, charging is pau(See Datasheet)", 4 FB2 (in) "Feedback Input for Switching Regulator 2. When regulator 2’s control loop is complete, this pin servos to 1 of 16 possible set-points based on the commanded value from the I2C serial port. See Table 4.", 5 VIN2 (power) "Power Input for Switching Regulator 2. This pin will generally be connected to VOUT. A 1uF MLCC capacitor is recommended on this pin.", 6 SW2 (power) "Power Transmission Pin for Switching Regulator 2.", 7 EN2 (in) "Logic Input. This logic input pin independently enables switching regulator 2. This pin is logically OR-ed with its corresponding bit in the I2C serial port. See Table 2.", 8 DVCC (power) "Logic Supply for the I2C Serial Port. If the serial port is not needed it can be disabled by grounding DVCC. When DVCC is grounded, chip control is automatically passed to the individual logic input pins.", 9 SCL (in) "Clock Input Pin for the I2C Serial Port. The I2C logic levels are scaled with respect to DVCC. If DVCC is grounded, the SCL pin is equivalent to the B5 bit in the I2C serial port. SCL in conjunction with SDA determine the (See Datasheet)", 10 SDA (io) "Data Input Pin for the I2C Serial Port. The I2C logic levels are scaled with respect to DVCC. If DVCC is grounded, the SDA pin is equivalent to the B6 bit in the I2C serial port. SDA in conjunction with SCL determine the (See Datasheet)", 11 VIN3 (power) "Power Input for Switching Regulator 3. This pin will generally be connected to VOUT. A 1uF MLCC capacitor is recommended on this pin.", 12 SW3 (power) "Power Transmission Pin for Switching Regulator 3.", 13 EN3 (in) "Logic Input. This logic input pin independently enables switching regulator 3. This pin is logically OR-ed with its corresponding bit in the I2C serial port. See Table 2.", 14 FB3 (in) "Feedback Input for Switching Regulator 3. When regulator 3’s control loop is complete, this pin servos to 1 of 16 possible set-points based on the commanded value from the I2C serial port. See Table 4.", 15 ~{RST3} (oc) "Logic Output. This in an open-drain output which indicates that switching regulator 3 has settled to its final value. It can be used as a power-on reset for the primary microprocessor or to enable the other switching (See Datasheet)", 16 EN1 (in) "Logic Input. This logic input pin independently enables switching regulator 1. This pin is logically OR-ed with its corresponding bit in the I2C serial port. See Table 2.", 17 SW1 (power) "Power Transmission Pin for Switching Regulator 1.", 18 VIN1 (power) "Power Input for Switching Regulator 1. This pin will generally be connected to VOUT. A 1uF MLCC capacitor is recommended on this pin.", 19 FB1 (in) "Feedback Input for Switching Regulator 1. When regulator 1’s control loop is complete, this pin servos to a fixed voltage of 0.8V.", 20 PROG (in) "Charge Current Program and Charge Current Monitor Pin. Connecting a resistor from PROG to ground programs the charge current. If sufficient input power is available in constant-current mode, this pin servos to 1V. The (See Datasheet)", 21 ~{CHRG} (hiz) "Open-Drain Charge Status Output. The C\H\R\G\ pin indicates the status of the battery charger. Four possible states are represented by C\H\R\G\: charging, not charging, unresponsive battery and battery temperature out of (See Datasheet)", 22 GATE (out) "Analog Output. This pin controls the gate of an optional external P-channel MOSFET transistor used to supplement the ideal diode between VOUT and BAT. The external ideal diode operates in parallel with the internal ideal (See Datasheet)", 23 BAT (power) "Single Cell Li-Ion Battery Pin. Depending on available VBUS power, a Li-Ion battery on BAT will either deliver power to VOUT through the ideal diode or be charged from VOUT via the battery charger.", 24 VOUT (power) ""Output voltage of the Switching PowerPath Controller and Input Voltage of the Battery Charger. The majority of the portable product should be powered from VOUT. The LTC3555 family will partition the available power between (See Datasheet)", 25 VBUS (power) "Primary Input Power Pin. This pin delivers power to VOUT via the SW pin by drawing controlled current from a DC source such as a USB port or wall adapter.", 26 SW "Power Transmission Pin for the USB Power Path. The SW pin delivers power from VBUS to VOUT via the step-down switching regulator. A 3.3uH inductor should be connected from SW to VOUT.", 27 ILIM0 (in) "Logic Input. ILIM0 and ILIM1 control the current limit of the PowerPath switching regulator. See Table 3. Both of the ILIM0 and ILIM1 pins are logically OR-ed with their corresponding bits in the I2C serial port. See Table 2.", 28 ILIM1 (in) "Logic Input. ILIM0 and ILIM1 control the current limit of the PowerPath switching regulator. See Table 3. Both of the ILIM0 and ILIM1 pins are logically OR-ed with their corresponding bits in the I2C serial port. See Table 2.", 29 EP (power) "Ground. The Exposed Pad should be connected to a continuous ground plane on the second layer of the printed circuit board by several vias directly under the part."